# Altium footprint library ALD1105PBL.PcbLib: 1 footprints
Each footprint in its own frame and in the unit in brackets; x right, y up, seen from the top. Pads: shape width x height; smd on the part's side, far side on the other; paste and mask are expansions set on the pad; w line width, h text height; cw(c..) or ccw(c..) is an arc to the next point about the centre after c.
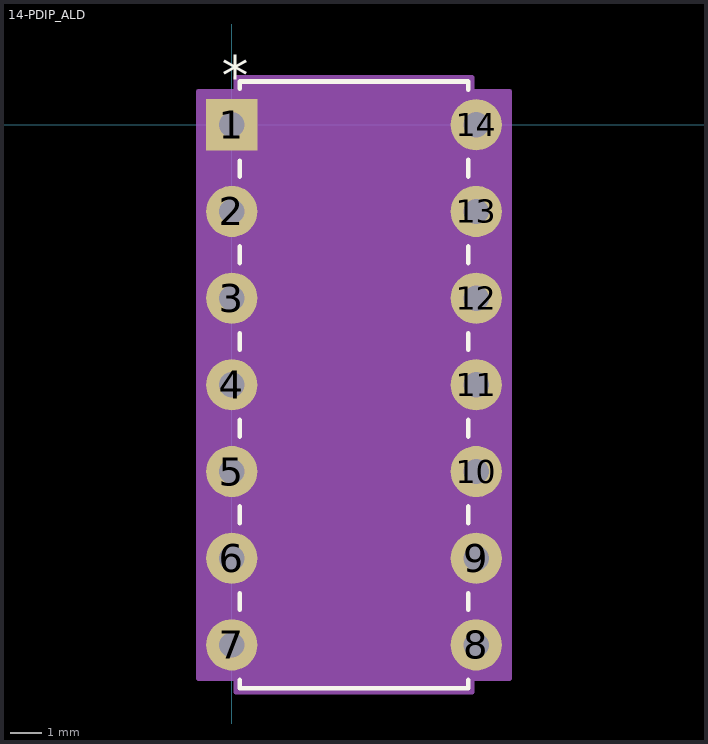
[diagram p0: the footprint, top view; thin cyan lines are the x and y axes]

## 14-PDIP_ALD [mil]
pads (14):
  rect 65x65 / inner round 60 / far side rect 65x65 hole 32 paste-32.5 mask+0: 1(0,0)
  round 65 / inner round 60 / far side round 65 hole 32 paste-32.5 mask+0: 2(0,-110) 3(0,-220) 4(0,-330) 5(0,-440) 6(0,-550) 7(0,-660) 8(310,-660) 9(310,-550) 10(310,-440) 11(310,-330) 12(310,-220) 13(310,-110) 14(310,0)
Top Overlay:
  lines w6: 10,-704.49 10,-715 300,-715 300,-704.49 ; 10,-615.51 10,-594.49 ; 10,-505.51 10,-484.49 ; 10,-395.51 10,-374.49 ; 10,-285.51 10,-264.49 ; 10,-175.51 10,-154.49 ; 10,-65.51 10,-45.6 ; 10,45.6 10,55 300,55 300,44.49 ; 300,-615.51 300,-594.49 ; 300,-505.51 300,-484.49 ; 300,-395.51 300,-374.49 ; 300,-285.51 300,-264.49 ; 300,-175.51 300,-154.49 ; 300,-65.51 300,-44.49
  text "*" at -12.5,37.5 h50
Mechanical 13:
  lines w0: 143,50 ccw(c155,50) 167,50
  lines w1: -16,-676 -16,-644 15,-644 15,-676 -16,-676 ; -16,-566 -16,-534 15,-534 15,-566 -16,-566 ; -16,-456 -16,-424 15,-424 15,-456 -16,-456 ; -16,-346 -16,-314 15,-314 15,-346 -16,-346 ; -16,-236 -16,-204 15,-204 15,-236 -16,-236 ; -16,-126 -16,-94 15,-94 15,-126 -16,-126 ; -16,-16 -16,16 15,16 15,-16 -16,-16 ; 15,-710 295,-710 295,50 15,50 15,-710 ; 295,-676 295,-644 326,-644 326,-676 295,-676 ; 295,-566 295,-534 326,-534 326,-566 295,-566 ; 295,-456 295,-424 326,-424 326,-456 295,-456 ; 295,-346 295,-314 326,-314 326,-346 295,-346 ; 295,-236 295,-204 326,-204 326,-236 295,-236 ; 295,-126 295,-94 326,-94 326,-126 295,-126 ; 295,-16 295,16 326,16 326,-16 295,-16
  text "*" at 12.5,-25 h50
Mechanical 15:
  region: 305,-702.5 352.5,-702.5 352.5,42.5 305,42.5 305,60 5,60 5,42.5 -42.5,42.5 -42.5,-702.5 5,-702.5 5,-720 305,-720
  lines w6: -42.5,-702.5 -42.5,42.5 5,42.5 5,60 305,60 305,42.5 352.5,42.5 352.5,-702.5 305,-702.5 305,-720 5,-720 5,-702.5 -42.5,-702.5
3D body "14-PDIP_ALD.step": height 205.12, standoff -100, extent -5,-710 325,50